# EAGLE library part 691309510005 (library Wuerth_Elektronik_eiCan_Terminal_Blocks_v2.0)
WR-TBL Serie 3095 - 5.08mm Reversed Gender Horizontal PCB Header , 5 pins
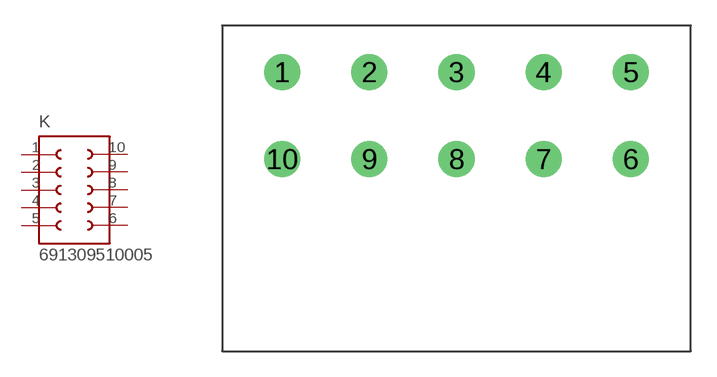
[diagram p178: symbol with the pads of 691309510005; footprint 691309510005]

Designator prefix K

## 691309510005  [691309510005]
1  1  pas
2  2  pas
3  3  pas
4  4  pas
5  5  pas
6  6  pas
7  7  pas
8  8  pas
9  9  pas
10  10  pas

## Footprint 691309510005 (pad centres in mm)
WR-TBL Serie 3075 - 5.08mm Reversed Gender Vertiacal PCB Header , 5 pins
drill 1.4 round: 1 -20.32,0; 2 -15.24,0; 3 -10.16,0; 4 -5.08,0; 5 0,0; 6 0,-5.08; 7 -5.08,-5.08; 8 -10.16,-5.08; 9 -15.24,-5.08; 10 -20.32,-5.08